# EAGLE library part 50246-016 (library con-aces-50246-series)
ACES CONNECTORS 50246 SERIES ACES Connecors 50246 <https://www.acesconn.com/tw/series/50246-xxxxx-xxx/1292>
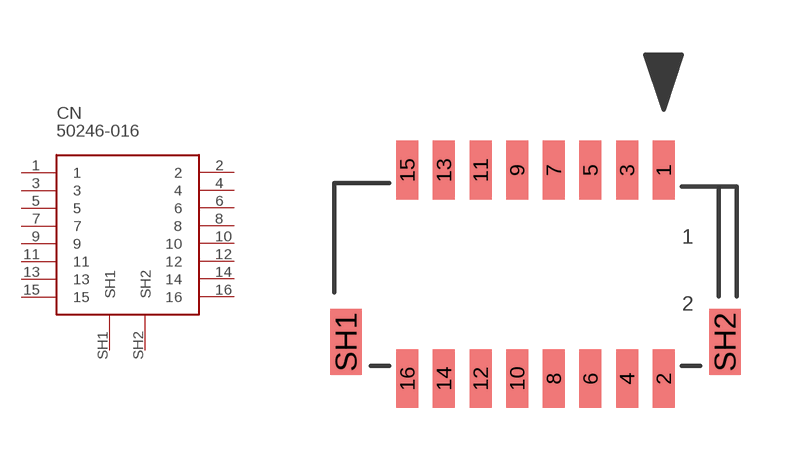
[diagram p3: symbol with the pads of 50246-016; footprint 50246-016]

Designator prefix CN

## 50246-016  [50246-016]
1  1
2  2
3  3
4  4
5  5
6  6
7  7
8  8
9  9
10  10
11  11
12  12
13  13
14  14
15  15
16  16
SH1  SH1
SH2  SH2

## Footprint 50246-016 (pad centres in mm)
smd 0.6 x 1.6: 1 3.5,2.85; 2 3.5,-2.85; 3 2.5,2.85; 4 2.5,-2.85; 5 1.5,2.85; 6 1.5,-2.85; 7 0.5,2.85; 8 0.5,-2.85; 9 -0.5,2.85; 10 -0.5,-2.85; 11 -1.5,2.85; 12 -1.5,-2.85; 13 -2.5,2.85; 14 -2.5,-2.85; 15 -3.5,2.85; 16 -3.5,-2.85
smd 0.85 x 1.8: SH1 -5.175,-1.85; SH2 5.175,-1.85